# EAGLE library part LGA12 (library Bits_library_eagle)
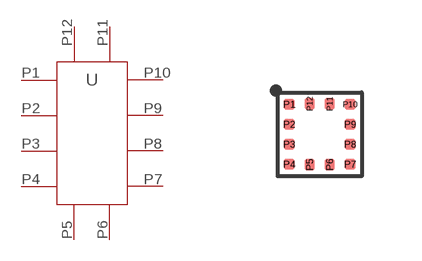
[diagram p19: symbol with the pads of LGA-12; footprint LGA-12]

Designator prefix -

## LGA12  [LGA-12]
P1  P$1
P2  P$2
P3  P$3
P4  P$4
P5  P$5
P6  P$6
P7  P$7
P8  P$8
P9  P$9
P10  P$10
P11  P$11
P12  P$12

## Footprint LGA-12 (pad centres in mm)
smd 0.275 x 0.25: P1 -0.762,0.75; P2 -0.762,0.25; P3 -0.762,-0.25; P4 -0.762,-0.75; P7 0.762,-0.75; P8 0.762,-0.25; P9 0.762,0.25; P10 0.762,0.75
smd 0.25 x 0.275: P5 -0.25,-0.762; P6 0.25,-0.762; P11 0.25,0.762; P12 -0.25,0.762